# Altium schematic symbol library TFM-110-02-L-D.Schlib: 1 symbol
Pins are listed as number, name and electrical type; pins without a type are passive.

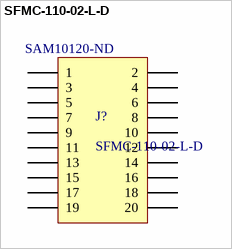
[diagram p0: symbol SFMC-110-02-L-D]

## SFMC-110-02-L-D
designator J?  Supplier Part Number 1: SAM10120-ND
20 pos 50mil pitch low profile SMD connector; Supplier 1: Digi-Key
footprint TFM-110-02-L-D (Samtec connector)
pins: 1, 2, 3, 4, 5, 6, 7, 8, 9, 10, 11, 12, 13, 14, 15, 16, 17, 18, 19, 20